# Altium footprint library ESP32-WROOM-32D_DEV_BOARD_PCB.PcbLib: 7 footprints
Each footprint in its own frame and in the unit in brackets; x right, y up, seen from the top. Pads: shape width x height; smd on the part's side, far side on the other; paste and mask are expansions set on the pad; w line width, h text height; cw(c..) or ccw(c..) is an arc to the next point about the centre after c.
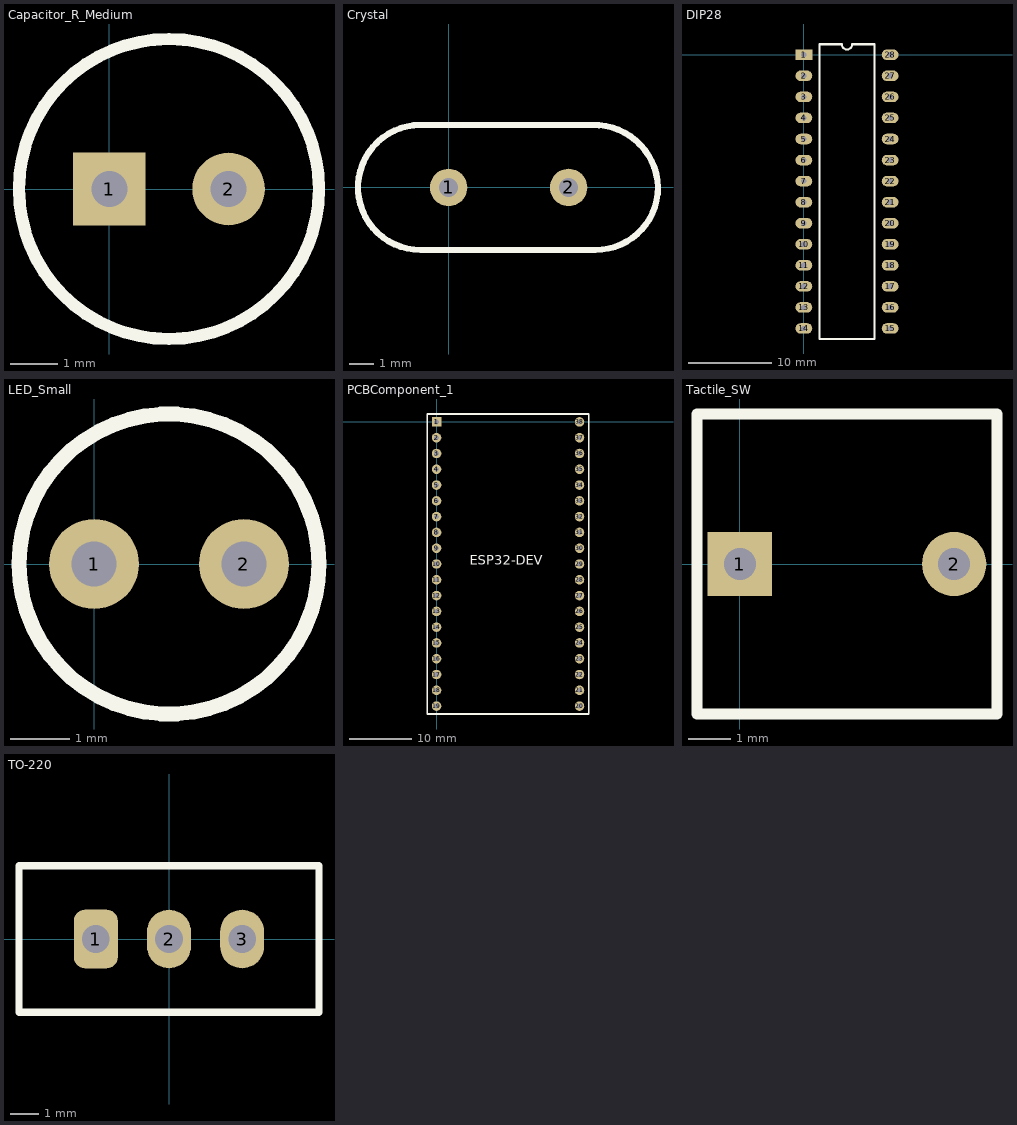
[diagram p0: the footprints below, top view; thin cyan lines are the x and y axes]

## Capacitor_R_Medium [mil]
pads (2):
  rect 60x60 hole 30: 1(0,0)
  round 60 hole 30: 2(98.5,0)
Top Overlay:
  circle w10: c49.25,0 r124

## Crystal [mil]
pads (2):
  round 60 hole 30: 1(0,0) 2(192,0)
Top Overlay:
  lines w10: -45,-100 cw(c-45,0) -45,100 230,100 cw(c232.5,-2.5) 335,0 cw(c235,0) 235,-100 -45,-100

## DIP28 [mil]
pads (28):
  rect 80x50 hole 25: 1(0,0)
  oval 80x50 hole 25: 2(0,-100) 3(0,-200) 4(0,-300) 5(0,-400) 6(0,-500) 7(0,-600) 8(0,-700) 9(0,-800) 10(0,-900) 11(0,-1000) 12(0,-1100) 13(0,-1200) 14(0,-1300) 15(410,-1300) 16(410,-1200) 17(410,-1100) 18(410,-1000) 19(410,-900) 20(410,-800) 21(410,-700) 22(410,-600) 23(410,-500) 24(410,-400) 25(410,-300) 26(410,-200) 27(410,-100) 28(410,0)
Top Overlay:
  lines w10: 75,-1350 335,-1350 335,50 230,50 cw(c205,50) 180,50 75,50 75,-1350

## LED_Small [mil]
pads (2):
  round 60 hole 30: 1(0,0) 2(100,0)
Top Overlay:
  circle w10: c50,0 r100.12

## PCBComponent_1 [mil]
pads (38):
  rect 60x60 hole 30: 1(0,0)
  round 60 hole 30: 2(0,-100) 3(0,-200) 4(0,-300) 5(0,-400) 6(0,-500) 7(0,-600) 8(0,-700) 9(0,-800) 10(0,-900) 11(0,-1000) 12(0,-1100) 13(0,-1200) 14(0,-1300) 15(0,-1400) 16(0,-1500) 17(0,-1600) 18(0,-1700) 19(0,-1800) 20(905.51,-1800) 21(905.51,-1700) 22(905.51,-1600) 23(905.51,-1500) 24(905.51,-1400) 25(905.51,-1300) 26(905.51,-1200) 27(905.51,-1100) 28(905.51,-1000) 29(905.51,-900) 30(905.51,-800) 31(905.51,-700) 32(905.51,-600) 33(905.51,-500) 34(905.51,-400) 35(905.51,-300) 36(905.51,-200) 37(905.51,-100) 38(905.51,0)
Top Overlay:
  lines w10: -60,-1850 965,-1850 965,50 -60,50 -60,-1850
  text "ESP32-DEV" at 210,-905 h60

## Tactile_SW [mil]
pads (2):
  rect 60x60 hole 30: 1(0,0)
  round 60 hole 30: 2(200,0)
Top Overlay:
  lines w10: -40,-140 240,-140 240,140 -40,140 -40,-140

## TO-220 [mil]
pads (3):
  rrect50% 60x80 hole 38: 1(-100,0)
  oval 60x80 hole 38: 2(0,0) 3(100,0)
Top Overlay:
  lines w10: -205,-100 205,-100 205,100 -205,100 -205,-100